# EAGLE library part NLSV1T244MUTBG (library JOSIAHLIB)
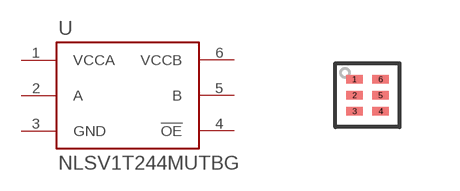
[diagram p4: symbol with the pads of UDFN6; footprint UDFN6]

Designator prefix U

## NLSV1T244MUTBG  [UDFN6]
1  VCCA
2  A
3  GND
4  !OE  in
5  B
6  VCCB

## Footprint UDFN6 (pad centres in mm)
UDFN6
smd 0.42 x 0.22: 1 -0.325,0.4; 2 -0.325,0; 3 -0.325,-0.4; 4 0.325,-0.4; 5 0.325,0; 6 0.325,0.4